# Altium footprint library PcbLib1.PcbLib: 1 footprints
Each footprint in its own frame and in the unit in brackets; x right, y up, seen from the top. Pads: shape width x height; smd on the part's side, far side on the other; paste and mask are expansions set on the pad; w line width, h text height; cw(c..) or ccw(c..) is an arc to the next point about the centre after c.
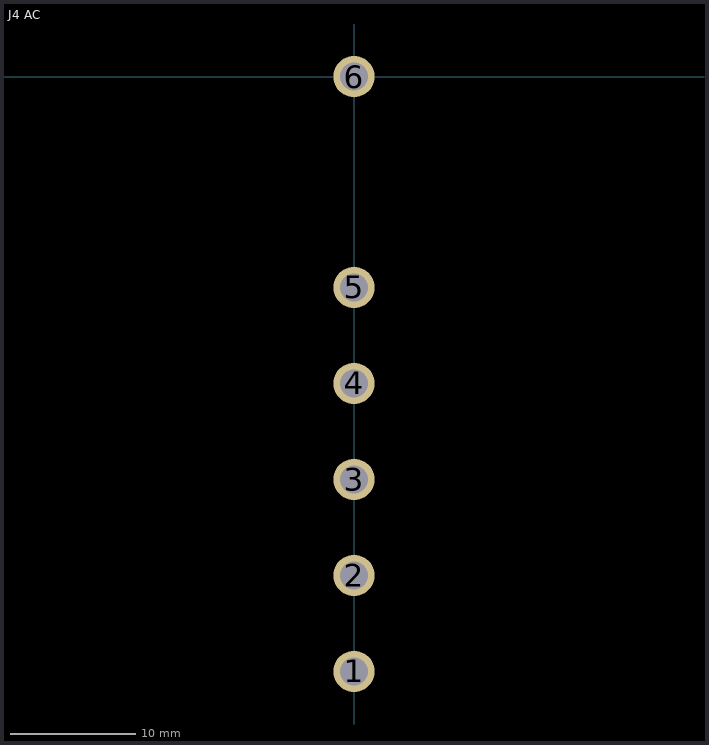
[diagram p0: the footprint, top view; thin cyan lines are the x and y axes]

## J4 AC [mm]
pads (6):
  round 3.3 hole 2.2: 1(0,-47.335) 2(0,-39.697) 3(0,-32.059) 4(0,-24.421) 5(0,-16.783) 6(0,0)